# Altium footprint library con-3m.PCBLIB: 62 footprints (part 1 of 6)
Each footprint in its own frame and in the unit in brackets; x right, y up, seen from the top. Pads: shape width x height; smd on the part's side, far side on the other; paste and mask are expansions set on the pad; w line width, h text height; cw(c..) or ccw(c..) is an arc to the next point about the centre after c.
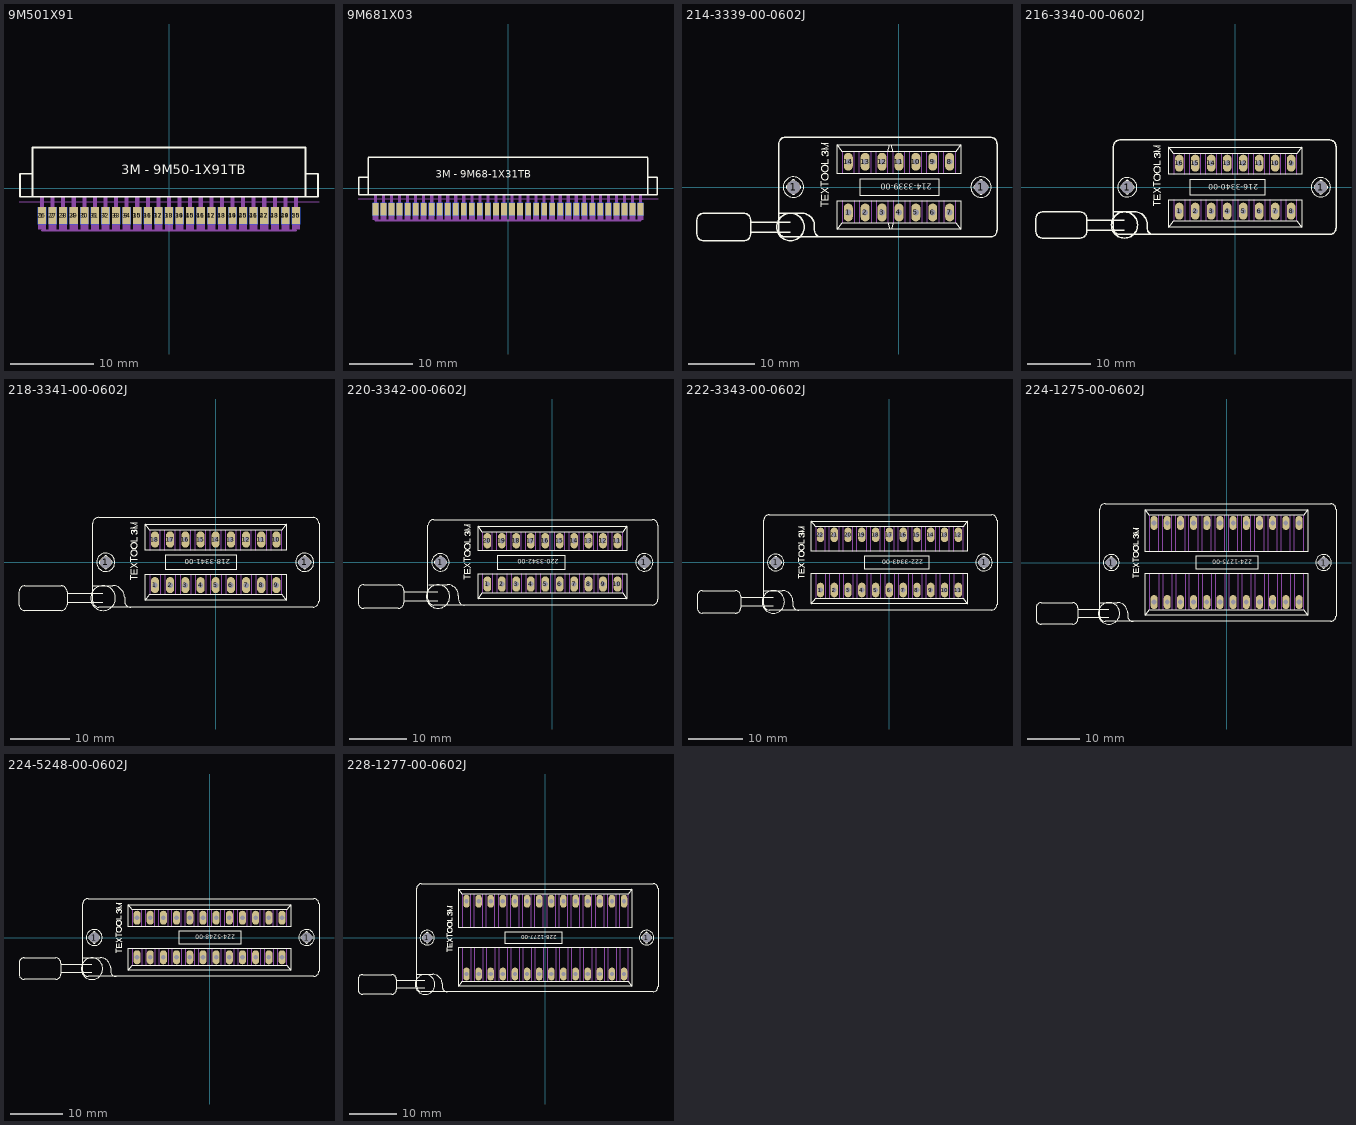
[diagram p0: the footprints below, top view; thin cyan lines are the x and y axes]

## 9M501X91 [mil]
pads (50):
  rect 38.58x79.92 smd: 1(-600,-129.53) 2(-550,-129.53) 3(-500,-129.53) 4(-450,-129.53) 5(-400,-129.53) 6(-350,-129.53) 7(-300,-129.53) 8(-250,-129.53) 9(-200,-129.53) 10(-150,-129.53) 11(-100,-129.53) 12(-50,-129.53) 13(0,-129.53) 14(50,-129.53) 15(100,-129.53) 16(150,-129.53) 17(200,-129.53) 18(250,-129.53) 19(300,-129.53) 20(350,-129.53) 21(400,-129.53) 22(450,-129.53) 23(500,-129.53) 24(550,-129.53) 25(600,-129.53)
  rect 38.58x79.92 smd far side: 26(-600,-129.53) 27(-550,-129.53) 28(-500,-129.53) 29(-450,-129.53) 30(-400,-129.53) 31(-350,-129.53) 32(-300,-129.53) 33(-250,-129.53) 34(-200,-129.53) 35(-150,-129.53) 36(-100,-129.53) 37(-50,-129.53) 38(0,-129.53) 39(50,-129.53) 40(100,-129.53) 41(150,-129.53) 42(200,-129.53) 43(250,-129.53) 44(300,-129.53) 45(350,-129.53) 46(400,-129.53) 47(450,-129.53) 48(500,-129.53) 49(550,-129.53) 50(600,-129.53)
Top Overlay:
  lines w8: -703.54,-39.76 -703.54,68.5 ; -702.76,-39.76 -644.49,-39.76 ; -702.76,68.5 -644.49,68.5 ; -644.49,192.13 -644.49,68.5 ; -643.7,192.52 643.7,192.52 ; 644.49,192.13 644.49,68.5 ; 702.76,-39.76 644.49,-39.76 ; 702.76,68.5 644.49,68.5 ; 703.54,-39.76 703.54,68.5 ; -644.49,-39.76 644.49,-39.76 ; -644.49,-39.76 -644.49,68.5 ; 644.49,-39.76 644.49,68.5
  text "3M - 9M50-1X91TB" at -225,50 h77.5
Mechanical 14:
  lines w2: -708.66,-63.78 708.66,-63.78
Mechanical 16:
  rectangle: -609.84,-169.69 -590.16,-41.73
  rectangle: -559.84,-169.69 -540.16,-41.73
  rectangle: -509.84,-169.69 -490.16,-41.73
  rectangle: -459.84,-169.69 -440.16,-41.73
  rectangle: -409.84,-169.69 -390.16,-41.73
  rectangle: -359.84,-169.69 -340.16,-41.73
  rectangle: -309.84,-169.69 -290.16,-41.73
  rectangle: -259.84,-169.69 -240.16,-41.73
  rectangle: -209.84,-169.69 -190.16,-41.73
  rectangle: -159.84,-169.69 -140.16,-41.73
  rectangle: -109.84,-169.69 -90.16,-41.73
  rectangle: -59.84,-169.69 -40.16,-41.73
  rectangle: -9.84,-169.69 9.84,-41.73
  rectangle: 40.16,-169.69 59.84,-41.73
  rectangle: 90.16,-169.69 109.84,-41.73
  rectangle: 140.16,-169.69 159.84,-41.73
  rectangle: 190.16,-169.69 209.84,-41.73
  rectangle: 240.16,-169.69 259.84,-41.73
  rectangle: 290.16,-169.69 309.84,-41.73
  rectangle: 340.16,-169.69 359.84,-41.73
  rectangle: 390.16,-169.69 409.84,-41.73
  rectangle: 440.16,-169.69 459.84,-41.73
  rectangle: 490.16,-169.69 509.84,-41.73
  rectangle: 540.16,-169.69 559.84,-41.73
  rectangle: 590.16,-169.69 609.84,-41.73
Mechanical 23:
  rectangle: -619,-196 -581,-90
  rectangle: -569,-196 -531,-90
  rectangle: -519,-196 -481,-90
  rectangle: -469,-196 -431,-90
  rectangle: -419,-196 -381,-90
  rectangle: -369,-196 -331,-90
  rectangle: -319,-196 -281,-90
  rectangle: -269,-196 -231,-90
  rectangle: -219,-196 -181,-90
  rectangle: -169,-196 -131,-90
  rectangle: -119,-196 -81,-90
  rectangle: -69,-196 -31,-90
  rectangle: -19,-196 19,-90
  rectangle: 31,-196 69,-90
  rectangle: 81,-196 119,-90
  rectangle: 131,-196 169,-90
  rectangle: 181,-196 219,-90
  rectangle: 231,-196 269,-90
  rectangle: 281,-196 319,-90
  rectangle: 331,-196 369,-90
  rectangle: 381,-196 419,-90
  rectangle: 431,-196 469,-90
  rectangle: 481,-196 519,-90
  rectangle: 531,-196 569,-90
  rectangle: 581,-196 619,-90
  lines w10: -600,-200 600,-200
Mechanical 24:
  rectangle: -619,-196 -581,-90
  rectangle: -569,-196 -531,-90
  rectangle: -519,-196 -481,-90
  rectangle: -469,-196 -431,-90
  rectangle: -419,-196 -381,-90
  rectangle: -369,-196 -331,-90
  rectangle: -319,-196 -281,-90
  rectangle: -269,-196 -231,-90
  rectangle: -219,-196 -181,-90
  rectangle: -169,-196 -131,-90
  rectangle: -119,-196 -81,-90
  rectangle: -69,-196 -31,-90
  rectangle: -19,-196 19,-90
  rectangle: 31,-196 69,-90
  rectangle: 81,-196 119,-90
  rectangle: 131,-196 169,-90
  rectangle: 181,-196 219,-90
  rectangle: 231,-196 269,-90
  rectangle: 281,-196 319,-90
  rectangle: 331,-196 369,-90
  rectangle: 381,-196 419,-90
  rectangle: 431,-196 469,-90
  rectangle: 481,-196 519,-90
  rectangle: 531,-196 569,-90
  rectangle: 581,-196 619,-90
  lines w10: -600,-200 600,-200
Mechanical 30:
  rectangle: -609.84,-169.69 -590.16,-41.73
  rectangle: -559.84,-169.69 -540.16,-41.73
  rectangle: -509.84,-169.69 -490.16,-41.73
  rectangle: -459.84,-169.69 -440.16,-41.73
  rectangle: -409.84,-169.69 -390.16,-41.73
  rectangle: -359.84,-169.69 -340.16,-41.73
  rectangle: -309.84,-169.69 -290.16,-41.73
  rectangle: -259.84,-169.69 -240.16,-41.73
  rectangle: -209.84,-169.69 -190.16,-41.73
  rectangle: -159.84,-169.69 -140.16,-41.73
  rectangle: -109.84,-169.69 -90.16,-41.73
  rectangle: -59.84,-169.69 -40.16,-41.73
  rectangle: -9.84,-169.69 9.84,-41.73
  rectangle: 40.16,-169.69 59.84,-41.73
  rectangle: 90.16,-169.69 109.84,-41.73
  rectangle: 140.16,-169.69 159.84,-41.73
  rectangle: 190.16,-169.69 209.84,-41.73
  rectangle: 240.16,-169.69 259.84,-41.73
  rectangle: 290.16,-169.69 309.84,-41.73
  rectangle: 340.16,-169.69 359.84,-41.73
  rectangle: 390.16,-169.69 409.84,-41.73
  rectangle: 440.16,-169.69 459.84,-41.73
  rectangle: 490.16,-169.69 509.84,-41.73
  rectangle: 540.16,-169.69 559.84,-41.73
  rectangle: 590.16,-169.69 609.84,-41.73

## 9M681X03 [mm]
pads (68):
  rect 0.89x2.03 smd: 1(-20.955,-3.29) 2(-19.685,-3.29) 3(-18.415,-3.29) 4(-17.145,-3.29) 5(-15.875,-3.29) 6(-14.605,-3.29) 7(-13.335,-3.29) 8(-12.065,-3.29) 9(-10.795,-3.29) 10(-9.525,-3.29) 11(-8.255,-3.29) 12(-6.985,-3.29) 13(-5.715,-3.29) 14(-4.445,-3.29) 15(-3.175,-3.29) 16(-1.905,-3.29) 17(-0.635,-3.29) 18(0.635,-3.29) 19(1.905,-3.29) 20(3.175,-3.29) 21(4.445,-3.29) 22(5.715,-3.29) 23(6.985,-3.29) 24(8.255,-3.29) 25(9.525,-3.29) 26(10.795,-3.29) 27(12.065,-3.29) 28(13.335,-3.29) 29(14.605,-3.29) 30(15.875,-3.29) 31(17.145,-3.29) 32(18.415,-3.29) 33(19.685,-3.29) 34(20.955,-3.29)
  rect 0.89x2.03 smd far side: 35(-20.955,-3.29) 36(-19.685,-3.29) 37(-18.415,-3.29) 38(-17.145,-3.29) 39(-15.875,-3.29) 40(-14.605,-3.29) 41(-13.335,-3.29) 42(-12.065,-3.29) 43(-10.795,-3.29) 44(-9.525,-3.29) 45(-8.255,-3.29) 46(-6.985,-3.29) 47(-5.715,-3.29) 48(-4.445,-3.29) 49(-3.175,-3.29) 50(-1.905,-3.29) 51(-0.635,-3.29) 52(0.635,-3.29) 53(1.905,-3.29) 54(3.175,-3.29) 55(4.445,-3.29) 56(5.715,-3.29) 57(6.985,-3.29) 58(8.255,-3.29) 59(9.525,-3.29) 60(10.795,-3.29) 61(12.065,-3.29) 62(13.335,-3.29) 63(14.605,-3.29) 64(15.875,-3.29) 65(17.145,-3.29) 66(18.415,-3.29) 67(19.685,-3.29) 68(20.955,-3.29)
Top Overlay:
  lines w0.203: -23.585,-1.01 -23.585,1.74 ; -23.565,-1.01 -22.085,-1.01 ; -23.565,1.74 -22.085,1.74 ; -22.085,4.88 -22.085,1.74 ; -22.065,4.89 22.065,4.89 ; 22.085,4.88 22.085,1.74 ; 23.565,-1.01 22.085,-1.01 ; 23.565,1.74 22.085,1.74 ; 23.585,-1.01 23.585,1.74 ; -22.085,-1.01 22.085,-1.01 ; -22.085,-1.01 -22.085,1.74 ; 22.085,-1.01 22.085,1.74
  text "3M - 9M68-1X31TB" at -11.43,1.27 h1.97
Mechanical 14:
  lines w0.051: -23.715,-1.62 23.715,-1.62
Mechanical 16:
  rectangle: -21.205,-4.31 -20.705,-1.06
  rectangle: -19.935,-4.31 -19.435,-1.06
  rectangle: -18.665,-4.31 -18.165,-1.06
  rectangle: -17.395,-4.31 -16.895,-1.06
  rectangle: -16.125,-4.31 -15.625,-1.06
  rectangle: -14.855,-4.31 -14.355,-1.06
  rectangle: -13.585,-4.31 -13.085,-1.06
  rectangle: -12.315,-4.31 -11.815,-1.06
  rectangle: -11.045,-4.31 -10.545,-1.06
  rectangle: -9.775,-4.31 -9.275,-1.06
  rectangle: -8.505,-4.31 -8.005,-1.06
  rectangle: -7.235,-4.31 -6.735,-1.06
  rectangle: -5.965,-4.31 -5.465,-1.06
  rectangle: -4.695,-4.31 -4.195,-1.06
  rectangle: -3.425,-4.31 -2.925,-1.06
  rectangle: -2.155,-4.31 -1.655,-1.06
  rectangle: -0.885,-4.31 -0.385,-1.06
  rectangle: 0.385,-4.31 0.885,-1.06
  rectangle: 1.655,-4.31 2.155,-1.06
  rectangle: 2.925,-4.31 3.425,-1.06
  rectangle: 4.195,-4.31 4.695,-1.06
  rectangle: 5.465,-4.31 5.965,-1.06
  rectangle: 6.735,-4.31 7.235,-1.06
  rectangle: 8.005,-4.31 8.505,-1.06
  rectangle: 9.275,-4.31 9.775,-1.06
  rectangle: 10.545,-4.31 11.045,-1.06
  rectangle: 11.815,-4.31 12.315,-1.06
  rectangle: 13.085,-4.31 13.585,-1.06
  rectangle: 14.355,-4.31 14.855,-1.06
  rectangle: 15.625,-4.31 16.125,-1.06
  rectangle: 16.895,-4.31 17.395,-1.06
  rectangle: 18.165,-4.31 18.665,-1.06
  rectangle: 19.435,-4.31 19.935,-1.06
  rectangle: 20.705,-4.31 21.205,-1.06
Mechanical 23:
  rectangle: -21.438,-4.978 -20.472,-2.286
  rectangle: -20.168,-4.978 -19.202,-2.286
  rectangle: -18.898,-4.978 -17.932,-2.286
  rectangle: -17.628,-4.978 -16.662,-2.286
  rectangle: -16.358,-4.978 -15.392,-2.286
  rectangle: -15.088,-4.978 -14.122,-2.286
  rectangle: -13.818,-4.978 -12.852,-2.286
  rectangle: -12.548,-4.978 -11.582,-2.286
  rectangle: -11.278,-4.978 -10.312,-2.286
  rectangle: -10.008,-4.978 -9.042,-2.286
  rectangle: -8.738,-4.978 -7.772,-2.286
  rectangle: -7.468,-4.978 -6.502,-2.286
  rectangle: -6.198,-4.978 -5.232,-2.286
  rectangle: -4.928,-4.978 -3.962,-2.286
  rectangle: -3.658,-4.978 -2.692,-2.286
  rectangle: -2.388,-4.978 -1.422,-2.286
  rectangle: -1.118,-4.978 -0.152,-2.286
  rectangle: 0.152,-4.978 1.118,-2.286
  rectangle: 1.422,-4.978 2.388,-2.286
  rectangle: 2.692,-4.978 3.658,-2.286
  rectangle: 3.962,-4.978 4.928,-2.286
  rectangle: 5.232,-4.978 6.198,-2.286
  rectangle: 6.502,-4.978 7.468,-2.286
  rectangle: 7.772,-4.978 8.738,-2.286
  rectangle: 9.042,-4.978 10.008,-2.286
  rectangle: 10.312,-4.978 11.278,-2.286
  rectangle: 11.582,-4.978 12.548,-2.286
  rectangle: 12.852,-4.978 13.818,-2.286
  rectangle: 14.122,-4.978 15.088,-2.286
  rectangle: 15.392,-4.978 16.358,-2.286
  rectangle: 16.662,-4.978 17.628,-2.286
  rectangle: 17.932,-4.978 18.898,-2.286
  rectangle: 19.202,-4.978 20.168,-2.286
  rectangle: 20.472,-4.978 21.438,-2.286
  lines w0.254: -20.955,-5.08 20.955,-5.08
Mechanical 24:
  rectangle: -21.438,-4.978 -20.472,-2.286
  rectangle: -20.168,-4.978 -19.202,-2.286
  rectangle: -18.898,-4.978 -17.932,-2.286
  rectangle: -17.628,-4.978 -16.662,-2.286
  rectangle: -16.358,-4.978 -15.392,-2.286
  rectangle: -15.088,-4.978 -14.122,-2.286
  rectangle: -13.818,-4.978 -12.852,-2.286
  rectangle: -12.548,-4.978 -11.582,-2.286
  rectangle: -11.278,-4.978 -10.312,-2.286
  rectangle: -10.008,-4.978 -9.042,-2.286
  rectangle: -8.738,-4.978 -7.772,-2.286
  rectangle: -7.468,-4.978 -6.502,-2.286
  rectangle: -6.198,-4.978 -5.232,-2.286
  rectangle: -4.928,-4.978 -3.962,-2.286
  rectangle: -3.658,-4.978 -2.692,-2.286
  rectangle: -2.388,-4.978 -1.422,-2.286
  rectangle: -1.118,-4.978 -0.152,-2.286
  rectangle: 0.152,-4.978 1.118,-2.286
  rectangle: 1.422,-4.978 2.388,-2.286
  rectangle: 2.692,-4.978 3.658,-2.286
  rectangle: 3.962,-4.978 4.928,-2.286
  rectangle: 5.232,-4.978 6.198,-2.286
  rectangle: 6.502,-4.978 7.468,-2.286
  rectangle: 7.772,-4.978 8.738,-2.286
  rectangle: 9.042,-4.978 10.008,-2.286
  rectangle: 10.312,-4.978 11.278,-2.286
  rectangle: 11.582,-4.978 12.548,-2.286
  rectangle: 12.852,-4.978 13.818,-2.286
  rectangle: 14.122,-4.978 15.088,-2.286
  rectangle: 15.392,-4.978 16.358,-2.286
  rectangle: 16.662,-4.978 17.628,-2.286
  rectangle: 17.932,-4.978 18.898,-2.286
  rectangle: 19.202,-4.978 20.168,-2.286
  rectangle: 20.472,-4.978 21.438,-2.286
  lines w0.254: -20.955,-5.08 20.955,-5.08
Mechanical 30:
  rectangle: 20.705,-4.31 21.205,-1.06
  rectangle: 19.435,-4.31 19.935,-1.06
  rectangle: 18.165,-4.31 18.665,-1.06
  rectangle: 16.895,-4.31 17.395,-1.06
  rectangle: 15.625,-4.31 16.125,-1.06
  rectangle: 14.355,-4.31 14.855,-1.06
  rectangle: 13.085,-4.31 13.585,-1.06
  rectangle: 11.815,-4.31 12.315,-1.06
  rectangle: 10.545,-4.31 11.045,-1.06
  rectangle: 9.275,-4.31 9.775,-1.06
  rectangle: 8.005,-4.31 8.505,-1.06
  rectangle: 6.735,-4.31 7.235,-1.06
  rectangle: 5.465,-4.31 5.965,-1.06
  rectangle: 4.195,-4.31 4.695,-1.06
  rectangle: 2.925,-4.31 3.425,-1.06
  rectangle: 1.655,-4.31 2.155,-1.06
  rectangle: 0.385,-4.31 0.885,-1.06
  rectangle: -0.885,-4.31 -0.385,-1.06
  rectangle: -2.155,-4.31 -1.655,-1.06
  rectangle: -3.425,-4.31 -2.925,-1.06
  rectangle: -4.695,-4.31 -4.195,-1.06
  rectangle: -5.965,-4.31 -5.465,-1.06
  rectangle: -7.235,-4.31 -6.735,-1.06
  rectangle: -8.505,-4.31 -8.005,-1.06
  rectangle: -9.775,-4.31 -9.275,-1.06
  rectangle: -11.045,-4.31 -10.545,-1.06
  rectangle: -12.315,-4.31 -11.815,-1.06
  rectangle: -13.585,-4.31 -13.085,-1.06
  rectangle: -14.855,-4.31 -14.355,-1.06
  rectangle: -16.125,-4.31 -15.625,-1.06
  rectangle: -17.395,-4.31 -16.895,-1.06
  rectangle: -18.665,-4.31 -18.165,-1.06
  rectangle: -19.935,-4.31 -19.435,-1.06
  rectangle: -21.205,-4.31 -20.705,-1.06

## 214-3339-00-0602J [mm]
pads (16):
  round 2 hole 2: 1(-15.85,0) 1(12.35,0)
  oval 1.35x2.7 hole 0.9: 1(-7.62,-3.81) 2(-5.08,-3.81) 3(-2.54,-3.81) 4(0,-3.81) 5(2.54,-3.81) 6(5.08,-3.81) 7(7.62,-3.81) 8(7.62,3.81) 9(5.08,3.81) 10(2.54,3.81) 11(0,3.81) 12(-2.54,3.81) 13(-5.08,3.81) 14(-7.62,3.81)
Top Overlay:
  circle w0.102: c-15.86,0 r1.53
  circle w0.203: c-16.3,-6 r2.072
  circle w0.102: c12.34,0 r1.53
  lines w0.102: -16.1,-0.3 ccw(c-16.17,-0.3) -16.17,-0.23 -16.71,-0.23 cw(c-16.71,0) -16.94,0 cw(c-16.71,0) -16.71,0.23 -16.16,0.23 ccw(c-16.16,0.3) -16.09,0.3 ; -16.09,-0.3 -16.09,-0.85 ccw(c-15.86,-0.85) -15.86,-1.08 ccw(c-15.86,-0.85) -15.63,-0.85 -15.63,-0.31 ; -16.09,0.31 -16.09,0.85 cw(c-15.86,0.85) -15.86,1.08 cw(c-15.86,0.85) -15.63,0.85 -15.63,0.3 ccw(c-15.56,0.3) -15.56,0.23 ; -15.63,-0.3 cw(c-15.56,-0.3) -15.56,-0.23 -15.01,-0.23 ccw(c-15.01,0) -14.78,0 ccw(c-15.01,0) -15.01,0.23 -15.55,0.23 ; -11.67,3.61 -10.62,3.61 -10.62,4.18 ; -11.65,-2.94 -11.65,-2.15 ; -11.65,-1.18 -11.65,-1.88 -10.61,-1.88 -10.61,-1.15 ; -11.65,-0.84 -10.61,-0.12 ; -11.65,-0.12 -10.61,-0.84 ; -11.65,0.12 -11.65,0.9 ; -11.64,-2.54 -10.61,-2.54 ; -11.63,0.52 -10.61,0.52 ; -11.36,4.76 cw(c-11.294,5.072) -11.61,5.11 cw(c-11.381,5.082) -11.5,5.28 cw(c-11.345,5.023) -11.23,5.3 cw(c-11.305,5.12) -11.11,5.12 ; -11.14,-1.84 -11.14,-1.24 ; -11.11,5.03 -11.11,5.12 ; -10.84,4.74 ccw(c-10.834,4.969) -10.61,4.92 ccw(c-11.185,5.046) -10.6,5.11 ccw(c-10.896,5.077) -10.71,5.31 ccw(c-10.864,5.117) -10.99,5.33 ccw(c-10.866,5.12) -11.11,5.12 ; -10.61,5.66 -11.64,5.66 -10.61,6.13 -11.65,6.61 -10.61,6.61 ; 12.1,-0.3 ccw(c12.03,-0.3) 12.03,-0.23 11.49,-0.23 cw(c11.49,0) 11.26,0 cw(c11.49,0) 11.49,0.23 12.04,0.23 ccw(c12.04,0.3) 12.11,0.3 ; 12.11,-0.3 12.11,-0.85 ccw(c12.34,-0.85) 12.34,-1.08 ccw(c12.34,-0.85) 12.57,-0.85 12.57,-0.31 ; 12.11,0.31 12.11,0.85 cw(c12.34,0.85) 12.34,1.08 cw(c12.34,0.85) 12.57,0.85 12.57,0.3 ccw(c12.64,0.3) 12.64,0.23 ; 12.57,-0.3 cw(c12.64,-0.3) 12.64,-0.23 13.19,-0.23 ccw(c13.19,0) 13.42,0 ccw(c13.19,0) 13.19,0.23 12.65,0.23 ; -9.271,-6.35 -1.397,-6.35 ; -9.271,-6.35 -9.271,-2.032 9.271,-2.032 9.271,-6.35 ; -9.271,-6.35 -8.509,-5.334 -1.651,-5.334 ; -9.271,6.35 -9.271,2.032 9.271,2.032 9.271,6.35 ; -9.271,6.35 -1.397,6.35 ; -9.271,6.35 -8.509,5.334 -1.651,5.334 ; -1.651,-5.334 -0.889,-5.334 ; -1.651,-5.334 -1.397,-6.35 ; -1.651,5.334 -0.889,5.334 ; -1.651,5.334 -1.397,6.35 ; -1.397,-6.35 -1.143,-6.35 ; -1.397,6.35 -1.143,6.35 ; -1.143,-6.35 9.271,-6.35 ; -1.143,-6.35 -0.889,-5.334 ; -1.143,6.35 9.271,6.35 ; -1.143,6.35 -0.889,5.334 ; -0.889,-5.334 8.509,-5.334 9.271,-6.35 ; -0.889,5.334 8.509,5.334 9.271,6.35 ; -11.19,1.1 cw(c-11.19,1.57) -11.19,2.04 -11.06,2.04 cw(c-11.06,1.57) -11.06,1.1 -11.19,1.1 ; -11.19,2.33 cw(c-11.19,2.8) -11.19,3.27 -11.06,3.27 cw(c-11.06,2.8) -11.06,2.33 -11.19,2.33 ; -5.842,-1.27 5.969,-1.27 5.969,1.27 -5.842,1.27 -5.842,-1.27
  lines w0.203: -22.26,-6.8 -16.35,-6.8 ; -22.26,-5.25 -16.35,-5.25 ; -17.95,-3.9 -14.7,-3.9 cw(c-14.7,-5.901) -12.7,-5.85 -12.7,-6.5 ccw(c-11.699,-6.5) -11.65,-7.5 ; -30.36,-7.07 -30.36,-4.93 cw(c-29.36,-4.93) -29.36,-3.93 -23.31,-3.93 cw(c-23.31,-4.93) -22.31,-4.93 -22.31,-7.07 cw(c-23.31,-7.07) -23.31,-8.07 -29.36,-8.07 cw(c-29.36,-7.07) -30.36,-7.07 ; -18.06,-6.5 ccw(c-17.06,-6.5) -17.06,-7.5 13.74,-7.5 ccw(c13.74,-6.5) 14.74,-6.5 14.74,6.5 ccw(c13.74,6.5) 13.74,7.5 -17.06,7.5 ccw(c-17.06,6.5) -18.06,6.5 -18.06,-6.5
  text "214-3339-00" at 4.953,0.508 h0.86
Mechanical 16:
  lines w0.102: -8.509,-5.334 -8.509,-2.032 ; -8.509,2.032 -8.509,5.334 ; -6.731,-5.334 -6.731,-2.032 ; -6.731,2.032 -6.731,5.334 ; -5.969,-5.334 -5.969,-2.032 ; -5.969,2.032 -5.969,5.334 ; -4.191,-5.334 -4.191,-2.032 ; -4.191,2.032 -4.191,5.334 ; -3.429,-5.334 -3.429,-2.032 ; -3.429,2.032 -3.429,5.334 ; -1.651,-5.334 -1.651,-2.032 ; -1.651,2.032 -1.651,5.334 ; -0.889,-5.334 -0.889,-2.032 ; -0.889,2.032 -0.889,5.334 ; 0.889,-5.334 0.889,-2.032 ; 0.889,2.032 0.889,5.334 ; 1.651,-5.334 1.651,-2.032 ; 1.651,2.032 1.651,5.334 ; 3.429,-5.334 3.429,-2.032 ; 3.429,2.032 3.429,5.334 ; 4.191,-5.334 4.191,-2.032 ; 4.191,2.032 4.191,5.334 ; 5.969,-5.334 5.969,-2.032 ; 5.969,2.032 5.969,5.334 ; 6.731,-5.334 6.731,-2.032 ; 6.731,2.032 6.731,5.334 ; 8.509,-5.334 8.509,-2.032 ; 8.509,2.032 8.509,5.334

## 216-3340-00-0602J [mm]
pads (18):
  round 2 hole 2: 1(-17.12,0) 1(13.62,0)
  oval 1.35x2.7 hole 0.9: 1(-8.89,-3.81) 2(-6.35,-3.81) 3(-3.81,-3.81) 4(-1.27,-3.81) 5(1.27,-3.81) 6(3.81,-3.81) 7(6.35,-3.81) 8(8.89,-3.81) 9(8.89,3.81) 10(6.35,3.81) 11(3.81,3.81) 12(1.27,3.81) 13(-1.27,3.81) 14(-3.81,3.81) 15(-6.35,3.81) 16(-8.89,3.81)
Top Overlay:
  circle w0.102: c-17.13,0 r1.53
  circle w0.203: c-17.57,-6 r2.072
  circle w0.102: c13.61,0 r1.53
  lines w0.102: -17.37,-0.3 ccw(c-17.44,-0.3) -17.44,-0.23 -17.98,-0.23 cw(c-17.98,0) -18.21,0 cw(c-17.98,0) -17.98,0.23 -17.43,0.23 ccw(c-17.43,0.3) -17.36,0.3 ; -17.36,-0.3 -17.36,-0.85 ccw(c-17.13,-0.85) -17.13,-1.08 ccw(c-17.13,-0.85) -16.9,-0.85 -16.9,-0.31 ; -17.36,0.31 -17.36,0.85 cw(c-17.13,0.85) -17.13,1.08 cw(c-17.13,0.85) -16.9,0.85 -16.9,0.3 ccw(c-16.83,0.3) -16.83,0.23 ; -16.9,-0.3 cw(c-16.83,-0.3) -16.83,-0.23 -16.28,-0.23 ccw(c-16.28,0) -16.05,0 ccw(c-16.28,0) -16.28,0.23 -16.82,0.23 ; -12.94,3.61 -11.89,3.61 -11.89,4.18 ; -12.92,-2.94 -12.92,-2.15 ; -12.92,-1.18 -12.92,-1.88 -11.88,-1.88 -11.88,-1.15 ; -12.92,-0.84 -11.88,-0.12 ; -12.92,-0.12 -11.88,-0.84 ; -12.92,0.12 -12.92,0.9 ; -12.91,-2.54 -11.88,-2.54 ; -12.9,0.52 -11.88,0.52 ; -12.63,4.76 cw(c-12.564,5.072) -12.88,5.11 cw(c-12.651,5.082) -12.77,5.28 cw(c-12.615,5.023) -12.5,5.3 cw(c-12.575,5.12) -12.38,5.12 ; -12.41,-1.84 -12.41,-1.24 ; -12.38,5.03 -12.38,5.12 ; -12.11,4.74 ccw(c-12.104,4.968) -11.88,4.92 ccw(c-12.455,5.046) -11.87,5.11 ccw(c-12.166,5.077) -11.98,5.31 ccw(c-12.134,5.117) -12.26,5.33 ccw(c-12.136,5.12) -12.38,5.12 ; -11.88,5.66 -12.91,5.66 -11.88,6.13 -12.92,6.61 -11.88,6.61 ; 13.37,-0.3 ccw(c13.3,-0.3) 13.3,-0.23 12.76,-0.23 cw(c12.76,0) 12.53,0 cw(c12.76,0) 12.76,0.23 13.31,0.23 ccw(c13.31,0.3) 13.38,0.3 ; 13.38,-0.3 13.38,-0.85 ccw(c13.61,-0.85) 13.61,-1.08 ccw(c13.61,-0.85) 13.84,-0.85 13.84,-0.31 ; 13.38,0.31 13.38,0.85 cw(c13.61,0.85) 13.61,1.08 cw(c13.61,0.85) 13.84,0.85 13.84,0.3 ccw(c13.91,0.3) 13.91,0.23 ; 13.84,-0.3 cw(c13.91,-0.3) 13.91,-0.23 14.46,-0.23 ccw(c14.46,0) 14.69,0 ccw(c14.46,0) 14.46,0.23 13.92,0.23 ; -10.541,-6.35 10.541,-6.35 ; -10.541,-6.35 -10.541,-2.032 10.541,-2.032 10.541,-6.35 ; -10.541,-6.35 -9.779,-5.334 9.779,-5.334 10.541,-6.35 ; -10.541,6.35 -10.541,2.032 10.541,2.032 10.541,6.35 ; -10.541,6.35 10.541,6.35 ; -10.541,6.35 -9.779,5.334 9.779,5.334 10.541,6.35 ; -12.46,1.1 cw(c-12.46,1.57) -12.46,2.04 -12.33,2.04 cw(c-12.33,1.57) -12.33,1.1 -12.46,1.1 ; -12.46,2.33 cw(c-12.46,2.8) -12.46,3.27 -12.33,3.27 cw(c-12.33,2.8) -12.33,2.33 -12.46,2.33 ; -7.112,-1.27 4.699,-1.27 4.699,1.27 -7.112,1.27 -7.112,-1.27
  lines w0.203: -23.53,-6.8 -17.62,-6.8 ; -23.53,-5.25 -17.62,-5.25 ; -19.22,-3.9 -15.97,-3.9 cw(c-15.97,-5.901) -13.97,-5.85 -13.97,-6.5 ccw(c-12.969,-6.5) -12.92,-7.5 ; -31.63,-7.07 -31.63,-4.93 cw(c-30.63,-4.93) -30.63,-3.93 -24.58,-3.93 cw(c-24.58,-4.93) -23.58,-4.93 -23.58,-7.07 cw(c-24.58,-7.07) -24.58,-8.07 -30.63,-8.07 cw(c-30.63,-7.07) -31.63,-7.07 ; -19.33,-6.5 ccw(c-18.33,-6.5) -18.33,-7.5 15.01,-7.5 ccw(c15.01,-6.5) 16.01,-6.5 16.01,6.5 ccw(c15.01,6.5) 15.01,7.5 -18.33,7.5 ccw(c-18.33,6.5) -19.33,6.5 -19.33,-6.5
  text "216-3340-00" at 3.683,0.508 h0.86
Mechanical 16:
  lines w0.102: -9.779,-5.334 -9.779,-2.032 ; -9.779,2.032 -9.779,5.334 ; -8.001,-5.334 -8.001,-2.032 ; -8.001,2.032 -8.001,5.334 ; -7.239,-5.334 -7.239,-2.032 ; -7.239,2.032 -7.239,5.334 ; -5.461,-5.334 -5.461,-2.032 ; -5.461,2.032 -5.461,5.334 ; -4.699,-5.334 -4.699,-2.032 ; -4.699,2.032 -4.699,5.334 ; -2.921,-5.334 -2.921,-2.032 ; -2.921,2.032 -2.921,5.334 ; -2.159,-5.334 -2.159,-2.032 ; -2.159,2.032 -2.159,5.334 ; -0.381,-5.334 -0.381,-2.032 ; -0.381,2.032 -0.381,5.334 ; 0.381,-5.334 0.381,-2.032 ; 0.381,2.032 0.381,5.334 ; 2.159,-5.334 2.159,-2.032 ; 2.159,2.032 2.159,5.334 ; 2.921,-5.334 2.921,-2.032 ; 2.921,2.032 2.921,5.334 ; 4.699,-5.334 4.699,-2.032 ; 4.699,2.032 4.699,5.334 ; 5.461,-5.334 5.461,-2.032 ; 5.461,2.032 5.461,5.334 ; 7.239,-5.334 7.239,-2.032 ; 7.239,2.032 7.239,5.334 ; 8.001,-5.334 8.001,-2.032 ; 8.001,2.032 8.001,5.334 ; 9.779,-5.334 9.779,-2.032 ; 9.779,2.032 9.779,5.334

## 218-3341-00-0602J [mm]
pads (20):
  round 2 hole 2: 1(-18.39,0) 1(14.89,0)
  oval 1.35x2.7 hole 0.9: 1(-10.16,-3.81) 2(-7.62,-3.81) 3(-5.08,-3.81) 4(-2.54,-3.81) 5(0,-3.81) 6(2.54,-3.81) 7(5.08,-3.81) 8(7.62,-3.81) 9(10.16,-3.81) 10(10.16,3.81) 11(7.62,3.81) 12(5.08,3.81) 13(2.54,3.81) 14(0,3.81) 15(-2.54,3.81) 16(-5.08,3.81) 17(-7.62,3.81) 18(-10.16,3.81)
Top Overlay:
  circle w0.102: c-18.4,0 r1.53
  circle w0.203: c-18.84,-6 r2.072
  circle w0.102: c14.88,0 r1.53
  lines w0.102: -18.64,-0.3 ccw(c-18.71,-0.3) -18.71,-0.23 -19.25,-0.23 cw(c-19.25,0) -19.48,0 cw(c-19.25,0) -19.25,0.23 -18.7,0.23 ccw(c-18.7,0.3) -18.63,0.3 ; -18.63,-0.3 -18.63,-0.85 ccw(c-18.4,-0.85) -18.4,-1.08 ccw(c-18.4,-0.85) -18.17,-0.85 -18.17,-0.31 ; -18.63,0.31 -18.63,0.85 cw(c-18.4,0.85) -18.4,1.08 cw(c-18.4,0.85) -18.17,0.85 -18.17,0.3 ccw(c-18.1,0.3) -18.1,0.23 ; -18.17,-0.3 cw(c-18.1,-0.3) -18.1,-0.23 -17.55,-0.23 ccw(c-17.55,0) -17.32,0 ccw(c-17.55,0) -17.55,0.23 -18.09,0.23 ; -14.21,3.61 -13.16,3.61 -13.16,4.18 ; -14.19,-2.94 -14.19,-2.15 ; -14.19,-1.18 -14.19,-1.88 -13.15,-1.88 -13.15,-1.15 ; -14.19,-0.84 -13.15,-0.12 ; -14.19,-0.12 -13.15,-0.84 ; -14.19,0.12 -14.19,0.9 ; -14.18,-2.54 -13.15,-2.54 ; -14.17,0.52 -13.15,0.52 ; -13.9,4.76 cw(c-13.834,5.072) -14.15,5.11 cw(c-13.921,5.082) -14.04,5.28 cw(c-13.885,5.023) -13.77,5.3 cw(c-13.845,5.12) -13.65,5.12 ; -13.68,-1.84 -13.68,-1.24 ; -13.65,5.03 -13.65,5.12 ; -13.38,4.74 ccw(c-13.374,4.968) -13.15,4.92 ccw(c-13.725,5.046) -13.14,5.11 ccw(c-13.436,5.077) -13.25,5.31 ccw(c-13.404,5.117) -13.53,5.33 ccw(c-13.406,5.12) -13.65,5.12 ; -13.15,5.66 -14.18,5.66 -13.15,6.13 -14.19,6.61 -13.15,6.61 ; 14.64,-0.3 ccw(c14.57,-0.3) 14.57,-0.23 14.03,-0.23 cw(c14.03,0) 13.8,0 cw(c14.03,0) 14.03,0.23 14.58,0.23 ccw(c14.58,0.3) 14.65,0.3 ; 14.65,-0.3 14.65,-0.85 ccw(c14.88,-0.85) 14.88,-1.08 ccw(c14.88,-0.85) 15.11,-0.85 15.11,-0.31 ; 14.65,0.31 14.65,0.85 cw(c14.88,0.85) 14.88,1.08 cw(c14.88,0.85) 15.11,0.85 15.11,0.3 ccw(c15.18,0.3) 15.18,0.23 ; 15.11,-0.3 cw(c15.18,-0.3) 15.18,-0.23 15.73,-0.23 ccw(c15.73,0) 15.96,0 ccw(c15.73,0) 15.73,0.23 15.19,0.23 ; -11.811,-6.35 11.811,-6.35 ; -11.811,-6.35 -11.811,-2.032 11.811,-2.032 11.811,-6.35 ; -11.811,-6.35 -11.049,-5.334 11.049,-5.334 11.811,-6.35 ; -11.811,6.35 -11.811,2.032 11.811,2.032 11.811,6.35 ; -11.811,6.35 11.811,6.35 ; -11.811,6.35 -11.049,5.334 11.049,5.334 11.811,6.35 ; -13.73,1.1 cw(c-13.73,1.57) -13.73,2.04 -13.6,2.04 cw(c-13.6,1.57) -13.6,1.1 -13.73,1.1 ; -13.73,2.33 cw(c-13.73,2.8) -13.73,3.27 -13.6,3.27 cw(c-13.6,2.8) -13.6,2.33 -13.73,2.33 ; -8.382,-1.27 3.429,-1.27 3.429,1.27 -8.382,1.27 -8.382,-1.27
  lines w0.203: -24.8,-6.8 -18.89,-6.8 ; -24.8,-5.25 -18.89,-5.25 ; -20.49,-3.9 -17.24,-3.9 cw(c-17.24,-5.901) -15.24,-5.85 -15.24,-6.5 ccw(c-14.239,-6.5) -14.19,-7.5 ; -32.9,-7.07 -32.9,-4.93 cw(c-31.9,-4.93) -31.9,-3.93 -25.85,-3.93 cw(c-25.85,-4.93) -24.85,-4.93 -24.85,-7.07 cw(c-25.85,-7.07) -25.85,-8.07 -31.9,-8.07 cw(c-31.9,-7.07) -32.9,-7.07 ; -20.6,-6.5 ccw(c-19.6,-6.5) -19.6,-7.5 16.28,-7.5 ccw(c16.28,-6.5) 17.28,-6.5 17.28,6.5 ccw(c16.28,6.5) 16.28,7.5 -19.6,7.5 ccw(c-19.6,6.5) -20.6,6.5 -20.6,-6.5
  text "218-3341-00" at 2.413,0.508 h0.86
Mechanical 16:
  lines w0.102: -11.049,-5.334 -11.049,-2.032 ; -11.049,2.032 -11.049,5.334 ; -9.271,-5.334 -9.271,-2.032 ; -9.271,2.032 -9.271,5.334 ; -8.509,-5.334 -8.509,-2.032 ; -8.509,2.032 -8.509,5.334 ; -6.731,-5.334 -6.731,-2.032 ; -6.731,2.032 -6.731,5.334 ; -5.969,-5.334 -5.969,-2.032 ; -5.969,2.032 -5.969,5.334 ; -4.191,-5.334 -4.191,-2.032 ; -4.191,2.032 -4.191,5.334 ; -3.429,-5.334 -3.429,-2.032 ; -3.429,2.032 -3.429,5.334 ; -1.651,-5.334 -1.651,-2.032 ; -1.651,2.032 -1.651,5.334 ; -0.889,-5.334 -0.889,-2.032 ; -0.889,2.032 -0.889,5.334 ; 0.889,-5.334 0.889,-2.032 ; 0.889,2.032 0.889,5.334 ; 1.651,-5.334 1.651,-2.032 ; 1.651,2.032 1.651,5.334 ; 3.429,-5.334 3.429,-2.032 ; 3.429,2.032 3.429,5.334 ; 4.191,-5.334 4.191,-2.032 ; 4.191,2.032 4.191,5.334 ; 5.969,-5.334 5.969,-2.032 ; 5.969,2.032 5.969,5.334 ; 6.731,-5.334 6.731,-2.032 ; 6.731,2.032 6.731,5.334 ; 8.509,-5.334 8.509,-2.032 ; 8.509,2.032 8.509,5.334 ; 9.271,-5.334 9.271,-2.032 ; 9.271,2.032 9.271,5.334 ; 11.049,-5.334 11.049,-2.032 ; 11.049,2.032 11.049,5.334

## 220-3342-00-0602J [mm]
pads (22):
  round 2 hole 2: 1(-19.66,0) 1(16.16,0)
  oval 1.35x2.7 hole 0.9: 1(-11.43,-3.81) 2(-8.89,-3.81) 3(-6.35,-3.81) 4(-3.81,-3.81) 5(-1.27,-3.81) 6(1.27,-3.81) 7(3.81,-3.81) 8(6.35,-3.81) 9(8.89,-3.81) 10(11.43,-3.81) 11(11.43,3.81) 12(8.89,3.81) 13(6.35,3.81) 14(3.81,3.81) 15(1.27,3.81) 16(-1.27,3.81) 17(-3.81,3.81) 18(-6.35,3.81) 19(-8.89,3.81) 20(-11.43,3.81)
Top Overlay:
  circle w0.102: c-19.67,0 r1.53
  circle w0.203: c-20.11,-6 r2.072
  circle w0.102: c16.15,0 r1.53
  lines w0.102: -19.91,-0.3 ccw(c-19.98,-0.3) -19.98,-0.23 -20.52,-0.23 cw(c-20.52,0) -20.75,0 cw(c-20.52,0) -20.52,0.23 -19.97,0.23 ccw(c-19.97,0.3) -19.9,0.3 ; -19.9,-0.3 -19.9,-0.85 ccw(c-19.67,-0.85) -19.67,-1.08 ccw(c-19.67,-0.85) -19.44,-0.85 -19.44,-0.31 ; -19.9,0.31 -19.9,0.85 cw(c-19.67,0.85) -19.67,1.08 cw(c-19.67,0.85) -19.44,0.85 -19.44,0.3 ccw(c-19.37,0.3) -19.37,0.23 ; -19.44,-0.3 cw(c-19.37,-0.3) -19.37,-0.23 -18.82,-0.23 ccw(c-18.82,0) -18.59,0 ccw(c-18.82,0) -18.82,0.23 -19.36,0.23 ; -15.48,3.61 -14.43,3.61 -14.43,4.18 ; -15.46,-2.94 -15.46,-2.15 ; -15.46,-1.18 -15.46,-1.88 -14.42,-1.88 -14.42,-1.15 ; -15.46,-0.84 -14.42,-0.12 ; -15.46,-0.12 -14.42,-0.84 ; -15.46,0.12 -15.46,0.9 ; -15.45,-2.54 -14.42,-2.54 ; -15.44,0.52 -14.42,0.52 ; -15.17,4.76 cw(c-15.104,5.072) -15.42,5.11 cw(c-15.191,5.082) -15.31,5.28 cw(c-15.155,5.023) -15.04,5.3 cw(c-15.115,5.12) -14.92,5.12 ; -14.95,-1.84 -14.95,-1.24 ; -14.92,5.03 -14.92,5.12 ; -14.65,4.74 ccw(c-14.644,4.968) -14.42,4.92 ccw(c-14.995,5.046) -14.41,5.11 ccw(c-14.706,5.077) -14.52,5.31 ccw(c-14.674,5.117) -14.8,5.33 ccw(c-14.676,5.12) -14.92,5.12 ; -14.42,5.66 -15.45,5.66 -14.42,6.13 -15.46,6.61 -14.42,6.61 ; 15.91,-0.3 ccw(c15.84,-0.3) 15.84,-0.23 15.3,-0.23 cw(c15.3,0) 15.07,0 cw(c15.3,0) 15.3,0.23 15.85,0.23 ccw(c15.85,0.3) 15.92,0.3 ; 15.92,-0.3 15.92,-0.85 ccw(c16.15,-0.85) 16.15,-1.08 ccw(c16.15,-0.85) 16.38,-0.85 16.38,-0.31 ; 15.92,0.31 15.92,0.85 cw(c16.15,0.85) 16.15,1.08 cw(c16.15,0.85) 16.38,0.85 16.38,0.3 ccw(c16.45,0.3) 16.45,0.23 ; 16.38,-0.3 cw(c16.45,-0.3) 16.45,-0.23 17,-0.23 ccw(c17,0) 17.23,0 ccw(c17,0) 17,0.23 16.46,0.23 ; -13.081,-6.35 13.081,-6.35 ; -13.081,-6.35 -13.081,-2.032 13.081,-2.032 13.081,-6.35 ; -13.081,-6.35 -12.319,-5.334 12.319,-5.334 13.081,-6.35 ; -13.081,6.35 -13.081,2.032 13.081,2.032 13.081,6.35 ; -13.081,6.35 13.081,6.35 ; -13.081,6.35 -12.319,5.334 12.319,5.334 13.081,6.35 ; -15,1.1 cw(c-15,1.57) -15,2.04 -14.87,2.04 cw(c-14.87,1.57) -14.87,1.1 -15,1.1 ; -15,2.33 cw(c-15,2.8) -15,3.27 -14.87,3.27 cw(c-14.87,2.8) -14.87,2.33 -15,2.33 ; -9.652,-1.27 2.159,-1.27 2.159,1.27 -9.652,1.27 -9.652,-1.27
  lines w0.203: -26.07,-6.8 -20.16,-6.8 ; -26.07,-5.25 -20.16,-5.25 ; -21.76,-3.9 -18.51,-3.9 cw(c-18.51,-5.901) -16.51,-5.85 -16.51,-6.5 ccw(c-15.509,-6.5) -15.46,-7.5 ; -34.17,-7.07 -34.17,-4.93 cw(c-33.17,-4.93) -33.17,-3.93 -27.12,-3.93 cw(c-27.12,-4.93) -26.12,-4.93 -26.12,-7.07 cw(c-27.12,-7.07) -27.12,-8.07 -33.17,-8.07 cw(c-33.17,-7.07) -34.17,-7.07 ; -21.87,-6.5 ccw(c-20.87,-6.5) -20.87,-7.5 17.55,-7.5 ccw(c17.55,-6.5) 18.55,-6.5 18.55,6.5 ccw(c17.55,6.5) 17.55,7.5 -20.87,7.5 ccw(c-20.87,6.5) -21.87,6.5 -21.87,-6.5
  text "220-3342-00" at 1.143,0.508 h0.86
Mechanical 16:
  lines w0.102: -12.319,-5.334 -12.319,-2.032 ; -12.319,2.032 -12.319,5.334 ; -10.541,-5.334 -10.541,-2.032 ; -10.541,2.032 -10.541,5.334 ; -9.779,-5.334 -9.779,-2.032 ; -9.779,2.032 -9.779,5.334 ; -8.001,-5.334 -8.001,-2.032 ; -8.001,2.032 -8.001,5.334 ; -7.239,-5.334 -7.239,-2.032 ; -7.239,2.032 -7.239,5.334 ; -5.461,-5.334 -5.461,-2.032 ; -5.461,2.032 -5.461,5.334 ; -4.699,-5.334 -4.699,-2.032 ; -4.699,2.032 -4.699,5.334 ; -2.921,-5.334 -2.921,-2.032 ; -2.921,2.032 -2.921,5.334 ; -2.159,-5.334 -2.159,-2.032 ; -2.159,2.032 -2.159,5.334 ; -0.381,-5.334 -0.381,-2.032 ; -0.381,2.032 -0.381,5.334 ; 0.381,-5.334 0.381,-2.032 ; 0.381,2.032 0.381,5.334 ; 2.159,-5.334 2.159,-2.032 ; 2.159,2.032 2.159,5.334 ; 2.921,-5.334 2.921,-2.032 ; 2.921,2.032 2.921,5.334 ; 4.699,-5.334 4.699,-2.032 ; 4.699,2.032 4.699,5.334 ; 5.461,-5.334 5.461,-2.032 ; 5.461,2.032 5.461,5.334 ; 7.239,-5.334 7.239,-2.032 ; 7.239,2.032 7.239,5.334 ; 8.001,-5.334 8.001,-2.032 ; 8.001,2.032 8.001,5.334 ; 9.779,-5.334 9.779,-2.032 ; 9.779,2.032 9.779,5.334 ; 10.541,-5.334 10.541,-2.032 ; 10.541,2.032 10.541,5.334 ; 12.319,-5.334 12.319,-2.032 ; 12.319,2.032 12.319,5.334

## 222-3343-00-0602J [mm]
pads (24):
  round 2 hole 2: 1(-20.93,0) 1(17.43,0)
  oval 1.35x2.7 hole 0.9: 1(-12.7,-5.08) 2(-10.16,-5.08) 3(-7.62,-5.08) 4(-5.08,-5.08) 5(-2.54,-5.08) 6(0,-5.08) 7(2.54,-5.08) 8(5.08,-5.08) 9(7.62,-5.08) 10(10.16,-5.08) 11(12.7,-5.08) 12(12.7,5.08) 13(10.16,5.08) 14(7.62,5.08) 15(5.08,5.08) 16(2.54,5.08) 17(0,5.08) 18(-2.54,5.08) 19(-5.08,5.08) 20(-7.62,5.08) 21(-10.16,5.08) 22(-12.7,5.08)
Top Overlay:
  circle w0.102: c-20.94,0 r1.53
  circle w0.203: c-21.38,-7.27 r2.072
  circle w0.102: c17.42,0 r1.53
  lines w0.102: -21.18,-0.3 ccw(c-21.25,-0.3) -21.25,-0.23 -21.79,-0.23 cw(c-21.79,0) -22.02,0 cw(c-21.79,0) -21.79,0.23 -21.24,0.23 ccw(c-21.24,0.3) -21.17,0.3 ; -21.17,-0.3 -21.17,-0.85 ccw(c-20.94,-0.85) -20.94,-1.08 ccw(c-20.94,-0.85) -20.71,-0.85 -20.71,-0.31 ; -21.17,0.31 -21.17,0.85 cw(c-20.94,0.85) -20.94,1.08 cw(c-20.94,0.85) -20.71,0.85 -20.71,0.3 ccw(c-20.64,0.3) -20.64,0.23 ; -20.71,-0.3 cw(c-20.64,-0.3) -20.64,-0.23 -20.09,-0.23 ccw(c-20.09,0) -19.86,0 ccw(c-20.09,0) -20.09,0.23 -20.63,0.23 ; -16.75,3.61 -15.7,3.61 -15.7,4.18 ; -16.73,-2.94 -16.73,-2.15 ; -16.73,-1.18 -16.73,-1.88 -15.69,-1.88 -15.69,-1.15 ; -16.73,-0.84 -15.69,-0.12 ; -16.73,-0.12 -15.69,-0.84 ; -16.73,0.12 -16.73,0.9 ; -16.72,-2.54 -15.69,-2.54 ; -16.71,0.52 -15.69,0.52 ; -16.44,4.76 cw(c-16.374,5.072) -16.69,5.11 cw(c-16.461,5.082) -16.58,5.28 cw(c-16.425,5.023) -16.31,5.3 cw(c-16.385,5.12) -16.19,5.12 ; -16.22,-1.84 -16.22,-1.24 ; -16.19,5.03 -16.19,5.12 ; -15.92,4.74 ccw(c-15.914,4.968) -15.69,4.92 ccw(c-16.265,5.046) -15.68,5.11 ccw(c-15.976,5.077) -15.79,5.31 ccw(c-15.944,5.117) -16.07,5.33 ccw(c-15.946,5.12) -16.19,5.12 ; -15.69,5.66 -16.72,5.66 -15.69,6.13 -16.73,6.61 -15.69,6.61 ; 17.18,-0.3 ccw(c17.11,-0.3) 17.11,-0.23 16.57,-0.23 cw(c16.57,0) 16.34,0 cw(c16.57,0) 16.57,0.23 17.12,0.23 ccw(c17.12,0.3) 17.19,0.3 ; 17.19,-0.3 17.19,-0.85 ccw(c17.42,-0.85) 17.42,-1.08 ccw(c17.42,-0.85) 17.65,-0.85 17.65,-0.31 ; 17.19,0.31 17.19,0.85 cw(c17.42,0.85) 17.42,1.08 cw(c17.42,0.85) 17.65,0.85 17.65,0.3 ccw(c17.72,0.3) 17.72,0.23 ; 17.65,-0.3 cw(c17.72,-0.3) 17.72,-0.23 18.27,-0.23 ccw(c18.27,0) 18.5,0 ccw(c18.27,0) 18.27,0.23 17.73,0.23 ; -14.351,-7.62 14.351,-7.62 ; -14.351,-7.62 -14.351,-2.032 14.351,-2.032 14.351,-7.62 ; -14.351,-7.62 -13.589,-6.604 13.589,-6.604 14.351,-7.62 ; -14.351,7.62 -14.351,2.032 14.351,2.032 14.351,7.62 ; -14.351,7.62 14.351,7.62 ; -14.351,7.62 -13.589,6.604 13.589,6.604 14.351,7.62 ; -16.27,1.1 cw(c-16.27,1.57) -16.27,2.04 -16.14,2.04 cw(c-16.14,1.57) -16.14,1.1 -16.27,1.1 ; -16.27,2.33 cw(c-16.27,2.8) -16.27,3.27 -16.14,3.27 cw(c-16.14,2.8) -16.14,2.33 -16.27,2.33 ; -4.572,-1.27 7.239,-1.27 7.239,1.27 -4.572,1.27 -4.572,-1.27
  lines w0.203: -27.34,-8.07 -21.43,-8.07 ; -27.34,-6.52 -21.43,-6.52 ; -23.03,-5.17 -19.78,-5.17 cw(c-19.78,-7.171) -17.78,-7.12 -17.78,-7.77 ccw(c-16.779,-7.77) -16.73,-8.77 ; -35.44,-8.34 -35.44,-6.2 cw(c-34.44,-6.2) -34.44,-5.2 -28.39,-5.2 cw(c-28.39,-6.2) -27.39,-6.2 -27.39,-8.34 cw(c-28.39,-8.34) -28.39,-9.34 -34.44,-9.34 cw(c-34.44,-8.34) -35.44,-8.34 ; -23.14,-7.77 ccw(c-22.14,-7.77) -22.14,-8.77 18.82,-8.77 ccw(c18.82,-7.77) 19.82,-7.77 19.82,7.77 ccw(c18.82,7.77) 18.82,8.77 -22.14,8.77 ccw(c-22.14,7.77) -23.14,7.77 -23.14,-7.77
  text "222-3343-00" at 6.223,0.508 h0.86
Mechanical 16:
  lines w0.102: -13.589,-6.604 -13.589,-2.032 ; -13.589,2.032 -13.589,6.604 ; -11.811,-6.604 -11.811,-2.032 ; -11.811,2.032 -11.811,6.604 ; -11.049,-6.604 -11.049,-2.032 ; -11.049,2.032 -11.049,6.604 ; -9.271,-6.604 -9.271,-2.032 ; -9.271,2.032 -9.271,6.604 ; -8.509,-6.604 -8.509,-2.032 ; -8.509,2.032 -8.509,6.604 ; -6.731,-6.604 -6.731,-2.032 ; -6.731,2.032 -6.731,6.604 ; -5.969,-6.604 -5.969,-2.032 ; -5.969,2.032 -5.969,6.604 ; -4.191,-6.604 -4.191,-2.032 ; -4.191,2.032 -4.191,6.604 ; -3.429,-6.604 -3.429,-2.032 ; -3.429,2.032 -3.429,6.604 ; -1.651,-6.604 -1.651,-2.032 ; -1.651,2.032 -1.651,6.604 ; -0.889,-6.604 -0.889,-2.032 ; -0.889,2.032 -0.889,6.604 ; 0.889,-6.604 0.889,-2.032 ; 0.889,2.032 0.889,6.604 ; 1.651,-6.604 1.651,-2.032 ; 1.651,2.032 1.651,6.604 ; 3.429,-6.604 3.429,-2.032 ; 3.429,2.032 3.429,6.604 ; 4.191,-6.604 4.191,-2.032 ; 4.191,2.032 4.191,6.604 ; 5.969,-6.604 5.969,-2.032 ; 5.969,2.032 5.969,6.604 ; 6.731,-6.604 6.731,-2.032 ; 6.731,2.032 6.731,6.604 ; 8.509,-6.604 8.509,-2.032 ; 8.509,2.032 8.509,6.604 ; 9.271,-6.604 9.271,-2.032 ; 9.271,2.032 9.271,6.604 ; 11.049,-6.604 11.049,-2.032 ; 11.049,2.032 11.049,6.604 ; 11.811,-6.604 11.811,-2.032 ; 11.811,2.032 11.811,6.604 ; 13.589,-6.604 13.589,-2.032 ; 13.589,2.032 13.589,6.604

## 224-1275-00-0602J [mm]
pads (26):
  round 2 hole 2: 1(-22.2,0) 1(18.7,0)
  oval 1.35x2.7 hole 0.9: 1(-13.97,-7.62) 2(-11.43,-7.62) 3(-8.89,-7.62) 4(-6.35,-7.62) 5(-3.81,-7.62) 6(-1.27,-7.62) 7(1.27,-7.62) 8(3.81,-7.62) 9(6.35,-7.62) 10(8.89,-7.62) 11(11.43,-7.62) 12(13.97,-7.62) 13(13.97,7.62) 14(11.43,7.62) 15(8.89,7.62) 16(6.35,7.62) 17(3.81,7.62) 18(1.27,7.62) 19(-1.27,7.62) 20(-3.81,7.62) 21(-6.35,7.62) 22(-8.89,7.62) 23(-11.43,7.62) 24(-13.97,7.62)
Top Overlay:
  circle w0.102: c-22.21,0 r1.53
  circle w0.203: c-22.65,-9.81 r2.072
  circle w0.102: c18.69,0 r1.53
  lines w0.102: -22.45,-0.3 ccw(c-22.52,-0.3) -22.52,-0.23 -23.06,-0.23 cw(c-23.06,0) -23.29,0 cw(c-23.06,0) -23.06,0.23 -22.51,0.23 ccw(c-22.51,0.3) -22.44,0.3 ; -22.44,-0.3 -22.44,-0.85 ccw(c-22.21,-0.85) -22.21,-1.08 ccw(c-22.21,-0.85) -21.98,-0.85 -21.98,-0.31 ; -22.44,0.31 -22.44,0.85 cw(c-22.21,0.85) -22.21,1.08 cw(c-22.21,0.85) -21.98,0.85 -21.98,0.3 ccw(c-21.91,0.3) -21.91,0.23 ; -21.98,-0.3 cw(c-21.91,-0.3) -21.91,-0.23 -21.36,-0.23 ccw(c-21.36,0) -21.13,0 ccw(c-21.36,0) -21.36,0.23 -21.9,0.23 ; -18.02,3.61 -16.97,3.61 -16.97,4.18 ; -18,-2.94 -18,-2.15 ; -18,-1.18 -18,-1.88 -16.96,-1.88 -16.96,-1.15 ; -18,-0.84 -16.96,-0.12 ; -18,-0.12 -16.96,-0.84 ; -18,0.12 -18,0.9 ; -17.99,-2.54 -16.96,-2.54 ; -17.98,0.52 -16.96,0.52 ; -17.71,4.76 cw(c-17.644,5.072) -17.96,5.11 cw(c-17.731,5.082) -17.85,5.28 cw(c-17.695,5.023) -17.58,5.3 cw(c-17.655,5.12) -17.46,5.12 ; -17.49,-1.84 -17.49,-1.24 ; -17.46,5.03 -17.46,5.12 ; -17.19,4.74 ccw(c-17.184,4.968) -16.96,4.92 ccw(c-17.535,5.046) -16.95,5.11 ccw(c-17.246,5.077) -17.06,5.31 ccw(c-17.214,5.117) -17.34,5.33 ccw(c-17.216,5.12) -17.46,5.12 ; -16.96,5.66 -17.99,5.66 -16.96,6.13 -18,6.61 -16.96,6.61 ; 18.45,-0.3 ccw(c18.38,-0.3) 18.38,-0.23 17.84,-0.23 cw(c17.84,0) 17.61,0 cw(c17.84,0) 17.84,0.23 18.39,0.23 ccw(c18.39,0.3) 18.46,0.3 ; 18.46,-0.3 18.46,-0.85 ccw(c18.69,-0.85) 18.69,-1.08 ccw(c18.69,-0.85) 18.92,-0.85 18.92,-0.31 ; 18.46,0.31 18.46,0.85 cw(c18.69,0.85) 18.69,1.08 cw(c18.69,0.85) 18.92,0.85 18.92,0.3 ccw(c18.99,0.3) 18.99,0.23 ; 18.92,-0.3 cw(c18.99,-0.3) 18.99,-0.23 19.54,-0.23 ccw(c19.54,0) 19.77,0 ccw(c19.54,0) 19.54,0.23 19,0.23 ; -15.621,-10.16 15.621,-10.16 ; -15.621,-10.16 -15.621,-2.032 15.621,-2.032 15.621,-10.16 ; -15.621,-10.16 -14.859,-9.144 14.859,-9.144 15.621,-10.16 ; -15.621,10.16 -15.621,2.032 15.621,2.032 15.621,10.16 ; -15.621,10.16 15.621,10.16 ; -15.621,10.16 -14.859,9.144 14.859,9.144 15.621,10.16 ; -17.54,1.1 cw(c-17.54,1.57) -17.54,2.04 -17.41,2.04 cw(c-17.41,1.57) -17.41,1.1 -17.54,1.1 ; -17.54,2.33 cw(c-17.54,2.8) -17.54,3.27 -17.41,3.27 cw(c-17.41,2.8) -17.41,2.33 -17.54,2.33 ; -5.842,-1.27 5.969,-1.27 5.969,1.27 -5.842,1.27 -5.842,-1.27
  lines w0.203: -28.61,-10.61 -22.7,-10.61 ; -28.61,-9.06 -22.7,-9.06 ; -24.3,-7.71 -21.05,-7.71 cw(c-21.05,-9.711) -19.05,-9.66 -19.05,-10.31 ccw(c-18.049,-10.31) -18,-11.31 ; -36.71,-10.88 -36.71,-8.74 cw(c-35.71,-8.74) -35.71,-7.74 -29.66,-7.74 cw(c-29.66,-8.74) -28.66,-8.74 -28.66,-10.88 cw(c-29.66,-10.88) -29.66,-11.88 -35.71,-11.88 cw(c-35.71,-10.88) -36.71,-10.88 ; -24.41,-10.31 ccw(c-23.41,-10.31) -23.41,-11.31 20.09,-11.31 ccw(c20.09,-10.31) 21.09,-10.31 21.09,10.31 ccw(c20.09,10.31) 20.09,11.31 -23.41,11.31 ccw(c-23.41,10.31) -24.41,10.31 -24.41,-10.31
  text "224-1275-00" at 4.953,0.508 h0.86
Mechanical 16:
  lines w0.102: -14.859,-9.144 -14.859,-2.032 ; -14.859,2.032 -14.859,9.144 ; -13.081,-9.144 -13.081,-2.032 ; -13.081,2.032 -13.081,9.144 ; -12.319,-9.144 -12.319,-2.032 ; -12.319,2.032 -12.319,9.144 ; -10.541,-9.144 -10.541,-2.032 ; -10.541,2.032 -10.541,9.144 ; -9.779,-9.144 -9.779,-2.032 ; -9.779,2.032 -9.779,9.144 ; -8.001,-9.144 -8.001,-2.032 ; -8.001,2.032 -8.001,9.144 ; -7.239,-9.144 -7.239,-2.032 ; -7.239,2.032 -7.239,9.144 ; -5.461,-9.144 -5.461,-2.032 ; -5.461,2.032 -5.461,9.144 ; -4.699,-9.144 -4.699,-2.032 ; -4.699,2.032 -4.699,9.144 ; -2.921,-9.144 -2.921,-2.032 ; -2.921,2.032 -2.921,9.144 ; -2.159,-9.144 -2.159,-2.032 ; -2.159,2.032 -2.159,9.144 ; -0.381,-9.144 -0.381,-2.032 ; -0.381,2.032 -0.381,9.144 ; 0.381,-9.144 0.381,-2.032 ; 0.381,2.032 0.381,9.144 ; 2.159,-9.144 2.159,-2.032 ; 2.159,2.032 2.159,9.144 ; 2.921,-9.144 2.921,-2.032 ; 2.921,2.032 2.921,9.144 ; 4.699,-9.144 4.699,-2.032 ; 4.699,2.032 4.699,9.144 ; 5.461,-9.144 5.461,-2.032 ; 5.461,2.032 5.461,9.144 ; 7.239,-9.144 7.239,-2.032 ; 7.239,2.032 7.239,9.144 ; 8.001,-9.144 8.001,-2.032 ; 8.001,2.032 8.001,9.144 ; 9.779,-9.144 9.779,-2.032 ; 9.779,2.032 9.779,9.144 ; 10.541,-9.144 10.541,-2.032 ; 10.541,2.032 10.541,9.144 ; 12.319,-9.144 12.319,-2.032 ; 12.319,2.032 12.319,9.144 ; 13.081,-9.144 13.081,-2.032 ; 13.081,2.032 13.081,9.144 ; 14.859,-9.144 14.859,-2.032 ; 14.859,2.032 14.859,9.144

## 224-5248-00-0602J [mm]
pads (26):
  round 2 hole 2: 1(-22.2,0) 1(18.7,0)
  oval 1.35x2.7 hole 0.9: 1(-13.97,-3.81) 2(-11.43,-3.81) 3(-8.89,-3.81) 4(-6.35,-3.81) 5(-3.81,-3.81) 6(-1.27,-3.81) 7(1.27,-3.81) 8(3.81,-3.81) 9(6.35,-3.81) 10(8.89,-3.81) 11(11.43,-3.81) 12(13.97,-3.81) 13(13.97,3.81) 14(11.43,3.81) 15(8.89,3.81) 16(6.35,3.81) 17(3.81,3.81) 18(1.27,3.81) 19(-1.27,3.81) 20(-3.81,3.81) 21(-6.35,3.81) 22(-8.89,3.81) 23(-11.43,3.81) 24(-13.97,3.81)
Top Overlay:
  circle w0.102: c-22.21,0 r1.53
  circle w0.203: c-22.65,-6 r2.072
  circle w0.102: c18.69,0 r1.53
  lines w0.102: -22.45,-0.3 ccw(c-22.52,-0.3) -22.52,-0.23 -23.06,-0.23 cw(c-23.06,0) -23.29,0 cw(c-23.06,0) -23.06,0.23 -22.51,0.23 ccw(c-22.51,0.3) -22.44,0.3 ; -22.44,-0.3 -22.44,-0.85 ccw(c-22.21,-0.85) -22.21,-1.08 ccw(c-22.21,-0.85) -21.98,-0.85 -21.98,-0.31 ; -22.44,0.31 -22.44,0.85 cw(c-22.21,0.85) -22.21,1.08 cw(c-22.21,0.85) -21.98,0.85 -21.98,0.3 ccw(c-21.91,0.3) -21.91,0.23 ; -21.98,-0.3 cw(c-21.91,-0.3) -21.91,-0.23 -21.36,-0.23 ccw(c-21.36,0) -21.13,0 ccw(c-21.36,0) -21.36,0.23 -21.9,0.23 ; -18.02,3.61 -16.97,3.61 -16.97,4.18 ; -18,-2.94 -18,-2.15 ; -18,-1.18 -18,-1.88 -16.96,-1.88 -16.96,-1.15 ; -18,-0.84 -16.96,-0.12 ; -18,-0.12 -16.96,-0.84 ; -18,0.12 -18,0.9 ; -17.99,-2.54 -16.96,-2.54 ; -17.98,0.52 -16.96,0.52 ; -17.71,4.76 cw(c-17.644,5.072) -17.96,5.11 cw(c-17.731,5.082) -17.85,5.28 cw(c-17.695,5.023) -17.58,5.3 cw(c-17.655,5.12) -17.46,5.12 ; -17.49,-1.84 -17.49,-1.24 ; -17.46,5.03 -17.46,5.12 ; -17.19,4.74 ccw(c-17.184,4.968) -16.96,4.92 ccw(c-17.535,5.046) -16.95,5.11 ccw(c-17.246,5.077) -17.06,5.31 ccw(c-17.214,5.117) -17.34,5.33 ccw(c-17.216,5.12) -17.46,5.12 ; -16.96,5.66 -17.99,5.66 -16.96,6.13 -18,6.61 -16.96,6.61 ; 18.45,-0.3 ccw(c18.38,-0.3) 18.38,-0.23 17.84,-0.23 cw(c17.84,0) 17.61,0 cw(c17.84,0) 17.84,0.23 18.39,0.23 ccw(c18.39,0.3) 18.46,0.3 ; 18.46,-0.3 18.46,-0.85 ccw(c18.69,-0.85) 18.69,-1.08 ccw(c18.69,-0.85) 18.92,-0.85 18.92,-0.31 ; 18.46,0.31 18.46,0.85 cw(c18.69,0.85) 18.69,1.08 cw(c18.69,0.85) 18.92,0.85 18.92,0.3 ccw(c18.99,0.3) 18.99,0.23 ; 18.92,-0.3 cw(c18.99,-0.3) 18.99,-0.23 19.54,-0.23 ccw(c19.54,0) 19.77,0 ccw(c19.54,0) 19.54,0.23 19,0.23 ; -15.621,-6.35 15.621,-6.35 ; -15.621,-6.35 -15.621,-2.032 15.621,-2.032 15.621,-6.35 ; -15.621,-6.35 -14.859,-5.334 14.859,-5.334 15.621,-6.35 ; -15.621,6.35 -15.621,2.032 15.621,2.032 15.621,6.35 ; -15.621,6.35 15.621,6.35 ; -15.621,6.35 -14.859,5.334 14.859,5.334 15.621,6.35 ; -17.54,1.1 cw(c-17.54,1.57) -17.54,2.04 -17.41,2.04 cw(c-17.41,1.57) -17.41,1.1 -17.54,1.1 ; -17.54,2.33 cw(c-17.54,2.8) -17.54,3.27 -17.41,3.27 cw(c-17.41,2.8) -17.41,2.33 -17.54,2.33 ; -5.842,-1.27 5.969,-1.27 5.969,1.27 -5.842,1.27 -5.842,-1.27
  lines w0.203: -28.61,-6.8 -22.7,-6.8 ; -28.61,-5.25 -22.7,-5.25 ; -24.3,-3.9 -21.05,-3.9 cw(c-21.05,-5.901) -19.05,-5.85 -19.05,-6.5 ccw(c-18.049,-6.5) -18,-7.5 ; -36.71,-7.07 -36.71,-4.93 cw(c-35.71,-4.93) -35.71,-3.93 -29.66,-3.93 cw(c-29.66,-4.93) -28.66,-4.93 -28.66,-7.07 cw(c-29.66,-7.07) -29.66,-8.07 -35.71,-8.07 cw(c-35.71,-7.07) -36.71,-7.07 ; -24.41,-6.5 ccw(c-23.41,-6.5) -23.41,-7.5 20.09,-7.5 ccw(c20.09,-6.5) 21.09,-6.5 21.09,6.5 ccw(c20.09,6.5) 20.09,7.5 -23.41,7.5 ccw(c-23.41,6.5) -24.41,6.5 -24.41,-6.5
  text "224-5248-00" at 4.953,0.508 h0.86
Mechanical 16:
  lines w0.102: -14.859,-5.334 -14.859,-2.032 ; -14.859,2.032 -14.859,5.334 ; -13.081,-5.334 -13.081,-2.032 ; -13.081,2.032 -13.081,5.334 ; -12.319,-5.334 -12.319,-2.032 ; -12.319,2.032 -12.319,5.334 ; -10.541,-5.334 -10.541,-2.032 ; -10.541,2.032 -10.541,5.334 ; -9.779,-5.334 -9.779,-2.032 ; -9.779,2.032 -9.779,5.334 ; -8.001,-5.334 -8.001,-2.032 ; -8.001,2.032 -8.001,5.334 ; -7.239,-5.334 -7.239,-2.032 ; -7.239,2.032 -7.239,5.334 ; -5.461,-5.334 -5.461,-2.032 ; -5.461,2.032 -5.461,5.334 ; -4.699,-5.334 -4.699,-2.032 ; -4.699,2.032 -4.699,5.334 ; -2.921,-5.334 -2.921,-2.032 ; -2.921,2.032 -2.921,5.334 ; -2.159,-5.334 -2.159,-2.032 ; -2.159,2.032 -2.159,5.334 ; -0.381,-5.334 -0.381,-2.032 ; -0.381,2.032 -0.381,5.334 ; 0.381,-5.334 0.381,-2.032 ; 0.381,2.032 0.381,5.334 ; 2.159,-5.334 2.159,-2.032 ; 2.159,2.032 2.159,5.334 ; 2.921,-5.334 2.921,-2.032 ; 2.921,2.032 2.921,5.334 ; 4.699,-5.334 4.699,-2.032 ; 4.699,2.032 4.699,5.334 ; 5.461,-5.334 5.461,-2.032 ; 5.461,2.032 5.461,5.334 ; 7.239,-5.334 7.239,-2.032 ; 7.239,2.032 7.239,5.334 ; 8.001,-5.334 8.001,-2.032 ; 8.001,2.032 8.001,5.334 ; 9.779,-5.334 9.779,-2.032 ; 9.779,2.032 9.779,5.334 ; 10.541,-5.334 10.541,-2.032 ; 10.541,2.032 10.541,5.334 ; 12.319,-5.334 12.319,-2.032 ; 12.319,2.032 12.319,5.334 ; 13.081,-5.334 13.081,-2.032 ; 13.081,2.032 13.081,5.334 ; 14.859,-5.334 14.859,-2.032 ; 14.859,2.032 14.859,5.334

## 228-1277-00-0602J [mm]
pads (30):
  round 2 hole 2: 1(-24.74,0) 1(21.24,0)
  oval 1.35x2.7 hole 0.9: 1(-16.51,-7.62) 2(-13.97,-7.62) 3(-11.43,-7.62) 4(-8.89,-7.62) 5(-6.35,-7.62) 6(-3.81,-7.62) 7(-1.27,-7.62) 8(1.27,-7.62) 9(3.81,-7.62) 10(6.35,-7.62) 11(8.89,-7.62) 12(11.43,-7.62) 13(13.97,-7.62) 14(16.51,-7.62) 15(16.51,7.62) 16(13.97,7.62) 17(11.43,7.62) 18(8.89,7.62) 19(6.35,7.62) 20(3.81,7.62) 21(1.27,7.62) 22(-1.27,7.62) 23(-3.81,7.62) 24(-6.35,7.62) 25(-8.89,7.62) 26(-11.43,7.62) 27(-13.97,7.62) 28(-16.51,7.62)
Top Overlay:
  circle w0.102: c-24.75,0 r1.53
  circle w0.203: c-25.19,-9.81 r2.072
  circle w0.102: c21.23,0 r1.53
  lines w0.102: -24.99,-0.3 ccw(c-25.06,-0.3) -25.06,-0.23 -25.6,-0.23 cw(c-25.6,0) -25.83,0 cw(c-25.6,0) -25.6,0.23 -25.05,0.23 ccw(c-25.05,0.3) -24.98,0.3 ; -24.98,-0.3 -24.98,-0.85 ccw(c-24.75,-0.85) -24.75,-1.08 ccw(c-24.75,-0.85) -24.52,-0.85 -24.52,-0.31 ; -24.98,0.31 -24.98,0.85 cw(c-24.75,0.85) -24.75,1.08 cw(c-24.75,0.85) -24.52,0.85 -24.52,0.3 ccw(c-24.45,0.3) -24.45,0.23 ; -24.52,-0.3 cw(c-24.45,-0.3) -24.45,-0.23 -23.9,-0.23 ccw(c-23.9,0) -23.67,0 ccw(c-23.9,0) -23.9,0.23 -24.44,0.23 ; -20.56,3.61 -19.51,3.61 -19.51,4.18 ; -20.54,-2.94 -20.54,-2.15 ; -20.54,-1.18 -20.54,-1.88 -19.5,-1.88 -19.5,-1.15 ; -20.54,-0.84 -19.5,-0.12 ; -20.54,-0.12 -19.5,-0.84 ; -20.54,0.12 -20.54,0.9 ; -20.53,-2.54 -19.5,-2.54 ; -20.52,0.52 -19.5,0.52 ; -20.25,4.76 cw(c-20.184,5.072) -20.5,5.11 cw(c-20.271,5.082) -20.39,5.28 cw(c-20.235,5.023) -20.12,5.3 cw(c-20.195,5.12) -20,5.12 ; -20.03,-1.84 -20.03,-1.24 ; -20,5.03 -20,5.12 ; -19.73,4.74 ccw(c-19.724,4.968) -19.5,4.92 ccw(c-20.075,5.046) -19.49,5.11 ccw(c-19.786,5.077) -19.6,5.31 ccw(c-19.754,5.117) -19.88,5.33 ccw(c-19.756,5.12) -20,5.12 ; -19.5,5.66 -20.53,5.66 -19.5,6.13 -20.54,6.61 -19.5,6.61 ; 20.99,-0.3 ccw(c20.92,-0.3) 20.92,-0.23 20.38,-0.23 cw(c20.38,0) 20.15,0 cw(c20.38,0) 20.38,0.23 20.93,0.23 ccw(c20.93,0.3) 21,0.3 ; 21,-0.3 21,-0.85 ccw(c21.23,-0.85) 21.23,-1.08 ccw(c21.23,-0.85) 21.46,-0.85 21.46,-0.31 ; 21,0.31 21,0.85 cw(c21.23,0.85) 21.23,1.08 cw(c21.23,0.85) 21.46,0.85 21.46,0.3 ccw(c21.53,0.3) 21.53,0.23 ; 21.46,-0.3 cw(c21.53,-0.3) 21.53,-0.23 22.08,-0.23 ccw(c22.08,0) 22.31,0 ccw(c22.08,0) 22.08,0.23 21.54,0.23 ; -18.161,-10.16 18.161,-10.16 ; -18.161,-10.16 -18.161,-2.032 18.161,-2.032 18.161,-10.16 ; -18.161,-10.16 -17.399,-9.144 17.399,-9.144 18.161,-10.16 ; -18.161,10.16 -18.161,2.032 18.161,2.032 18.161,10.16 ; -18.161,10.16 18.161,10.16 ; -18.161,10.16 -17.399,9.144 17.399,9.144 18.161,10.16 ; -20.08,1.1 cw(c-20.08,1.57) -20.08,2.04 -19.95,2.04 cw(c-19.95,1.57) -19.95,1.1 -20.08,1.1 ; -20.08,2.33 cw(c-20.08,2.8) -20.08,3.27 -19.95,3.27 cw(c-19.95,2.8) -19.95,2.33 -20.08,2.33 ; -8.382,-1.27 3.429,-1.27 3.429,1.27 -8.382,1.27 -8.382,-1.27
  lines w0.203: -31.15,-10.61 -25.24,-10.61 ; -31.15,-9.06 -25.24,-9.06 ; -26.84,-7.71 -23.59,-7.71 cw(c-23.59,-9.711) -21.59,-9.66 -21.59,-10.31 ccw(c-20.589,-10.31) -20.54,-11.31 ; -39.25,-10.88 -39.25,-8.74 cw(c-38.25,-8.74) -38.25,-7.74 -32.2,-7.74 cw(c-32.2,-8.74) -31.2,-8.74 -31.2,-10.88 cw(c-32.2,-10.88) -32.2,-11.88 -38.25,-11.88 cw(c-38.25,-10.88) -39.25,-10.88 ; -26.95,-10.31 ccw(c-25.95,-10.31) -25.95,-11.31 22.63,-11.31 ccw(c22.63,-10.31) 23.63,-10.31 23.63,10.31 ccw(c22.63,10.31) 22.63,11.31 -25.95,11.31 ccw(c-25.95,10.31) -26.95,10.31 -26.95,-10.31
  text "228-1277-00" at 2.413,0.508 h0.86
Mechanical 16:
  lines w0.102: -17.399,-9.144 -17.399,-2.032 ; -17.399,2.032 -17.399,9.144 ; -15.621,-9.144 -15.621,-2.032 ; -15.621,2.032 -15.621,9.144 ; -14.859,-9.144 -14.859,-2.032 ; -14.859,2.032 -14.859,9.144 ; -13.081,-9.144 -13.081,-2.032 ; -13.081,2.032 -13.081,9.144 ; -12.319,-9.144 -12.319,-2.032 ; -12.319,2.032 -12.319,9.144 ; -10.541,-9.144 -10.541,-2.032 ; -10.541,2.032 -10.541,9.144 ; -9.779,-9.144 -9.779,-2.032 ; -9.779,2.032 -9.779,9.144 ; -8.001,-9.144 -8.001,-2.032 ; -8.001,2.032 -8.001,9.144 ; -7.239,-9.144 -7.239,-2.032 ; -7.239,2.032 -7.239,9.144 ; -5.461,-9.144 -5.461,-2.032 ; -5.461,2.032 -5.461,9.144 ; -4.699,-9.144 -4.699,-2.032 ; -4.699,2.032 -4.699,9.144 ; -2.921,-9.144 -2.921,-2.032 ; -2.921,2.032 -2.921,9.144 ; -2.159,-9.144 -2.159,-2.032 ; -2.159,2.032 -2.159,9.144 ; -0.381,-9.144 -0.381,-2.032 ; -0.381,2.032 -0.381,9.144 ; 0.381,-9.144 0.381,-2.032 ; 0.381,2.032 0.381,9.144 ; 2.159,-9.144 2.159,-2.032 ; 2.159,2.032 2.159,9.144 ; 2.921,-9.144 2.921,-2.032 ; 2.921,2.032 2.921,9.144 ; 4.699,-9.144 4.699,-2.032 ; 4.699,2.032 4.699,9.144 ; 5.461,-9.144 5.461,-2.032 ; 5.461,2.032 5.461,9.144 ; 7.239,-9.144 7.239,-2.032 ; 7.239,2.032 7.239,9.144 ; 8.001,-9.144 8.001,-2.032 ; 8.001,2.032 8.001,9.144 ; 9.779,-9.144 9.779,-2.032 ; 9.779,2.032 9.779,9.144 ; 10.541,-9.144 10.541,-2.032 ; 10.541,2.032 10.541,9.144 ; 12.319,-9.144 12.319,-2.032 ; 12.319,2.032 12.319,9.144 ; 13.081,-9.144 13.081,-2.032 ; 13.081,2.032 13.081,9.144 ; 14.859,-9.144 14.859,-2.032 ; 14.859,2.032 14.859,9.144 ; 15.621,-9.144 15.621,-2.032 ; 15.621,2.032 15.621,9.144 ; 17.399,-9.144 17.399,-2.032 ; 17.399,2.032 17.399,9.144